# Altium footprint library ME54BS01-1Y15TI.PcbLib: 1 footprints
Each footprint in its own frame and in the unit in brackets; x right, y up, seen from the top. Pads: shape width x height; smd on the part's side, far side on the other; paste and mask are expansions set on the pad; w line width, h text height; cw(c..) or ccw(c..) is an arc to the next point about the centre after c.
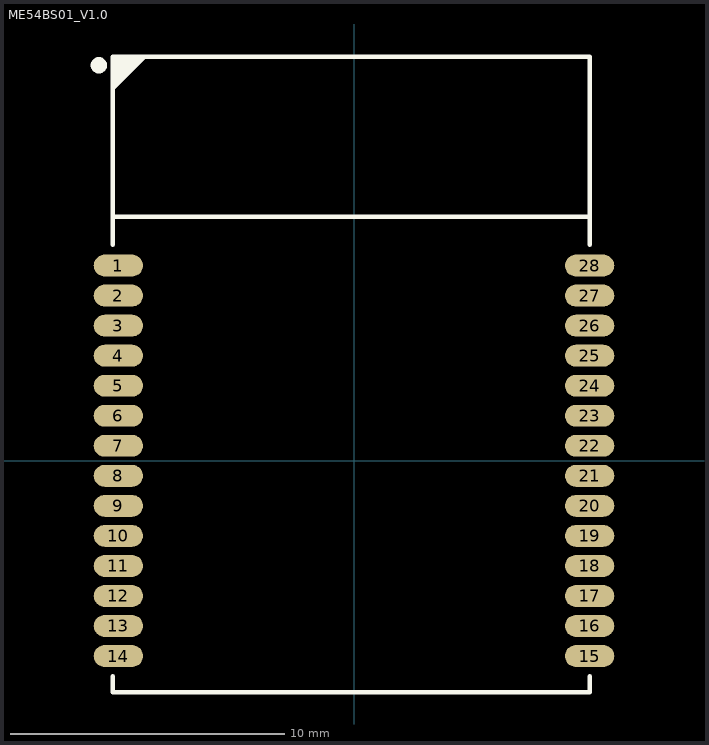
[diagram p0: the footprint, top view; thin cyan lines are the x and y axes]

## ME54BS01_V1.0 [mm] "ME54BS01"
pads (28):
  oval 1.8x0.8 smd: 1(-8.6,7.124) 2(-8.6,6.028) 3(-8.6,4.932) 4(-8.6,3.836) 5(-8.6,2.74) 6(-8.6,1.644) 7(-8.6,0.548) 8(-8.6,-0.548) 9(-8.6,-1.644) 10(-8.6,-2.74) 11(-8.6,-3.836) 12(-8.6,-4.932) 13(-8.6,-6.028) 14(-8.6,-7.124) 15(8.6,-7.124) 16(8.6,-6.028) 17(8.6,-4.932) 18(8.6,-3.836) 19(8.6,-2.74) 20(8.6,-1.644) 21(8.6,-0.548) 22(8.6,0.548) 23(8.6,1.644) 24(8.6,2.74) 25(8.6,3.836) 26(8.6,4.932) 27(8.6,6.028) 28(8.6,7.124)
Top Overlay:
  circle w0.3: c-9.31,14.434 r0.15
  region: -8.805,13.999 -8.805,14.779 -8.77,14.779 -8.745,14.779 -7.505,14.779 -8.805,13.479
  lines w0.16: -8.8,-7.862 -8.8,-8.444 8.599,-8.444 ; -8.8,7.886 -8.8,14.744 8.599,14.744 8.599,7.886 ; -8.8,8.902 8.599,8.902 ; 8.599,-8.434 8.599,-7.862
3D body "ME54BS01_PCB_V1.0.step": height 2.1, standoff 0.19, extent -8.799,-8.446 8.599,14.749